# Altium footprint library CAP_CAN_TH_7p5mmLS18mmD.PcbLib: 1 footprints
Each footprint in its own frame and in the unit in brackets; x right, y up, seen from the top. Pads: shape width x height; smd on the part's side, far side on the other; paste and mask are expansions set on the pad; w line width, h text height; cw(c..) or ccw(c..) is an arc to the next point about the centre after c.
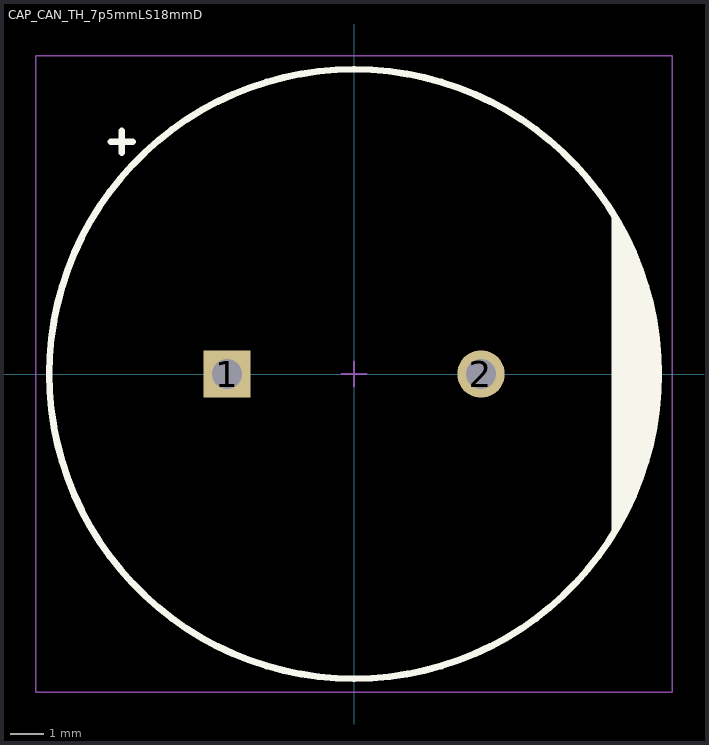
[diagram p0: the footprint, top view; thin cyan lines are the x and y axes]

## CAP_CAN_TH_7p5mmLS18mmD [mil]
pads (2):
  rect 55x55 hole 35: 1(-147.64,0)
  round 55 hole 35: 2(147.64,0)
Top Overlay:
  circle w7.87: c0,0 r354.33
  region: 300,185 300,-185 320,-150 340,-95 350,-45 354.33,0 350,45 335,115 315,165
  lines w7.87: -282.5,270 -257.5,270 ; -270,257.5 -270,282.5
Mechanical 15:
  lines w1.97: -15,0 15,0 ; 0,-15 0,15 ; -370,-370 370,-370 370,370 -370,370 -370,-370